# EAGLE library part TPS719 (library X893)
Dual LDO http://focus.ti.com/lit/ds/symlink/tps71933-33.pdf
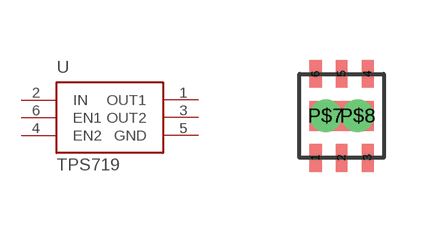
[diagram p30: symbol with the pads of SON-6; footprint SON-6]

Designator prefix U

## TPS71933-33DRV  [SON-6]
1  OUT1  pas
2  IN  pas
3  OUT2  pas
4  EN2  pas
5  GND  sup
6  EN1  pas

## Footprint SON-6 (pad centres in mm)
smd 0.3 x 0.7: 1 -0.65,-1.05; 2 0,-1.05; 3 0.65,-1.05; 4 0.65,1.05; 5 0,1.05; 6 -0.65,1.05
drill 0.3 pad 0.5: P$7 -0.4,0; P$8 0.4,0